# Altium integrated library Linear Technology Power Management Current Sources.IntLib: 79 symbols (part 4 of 7)
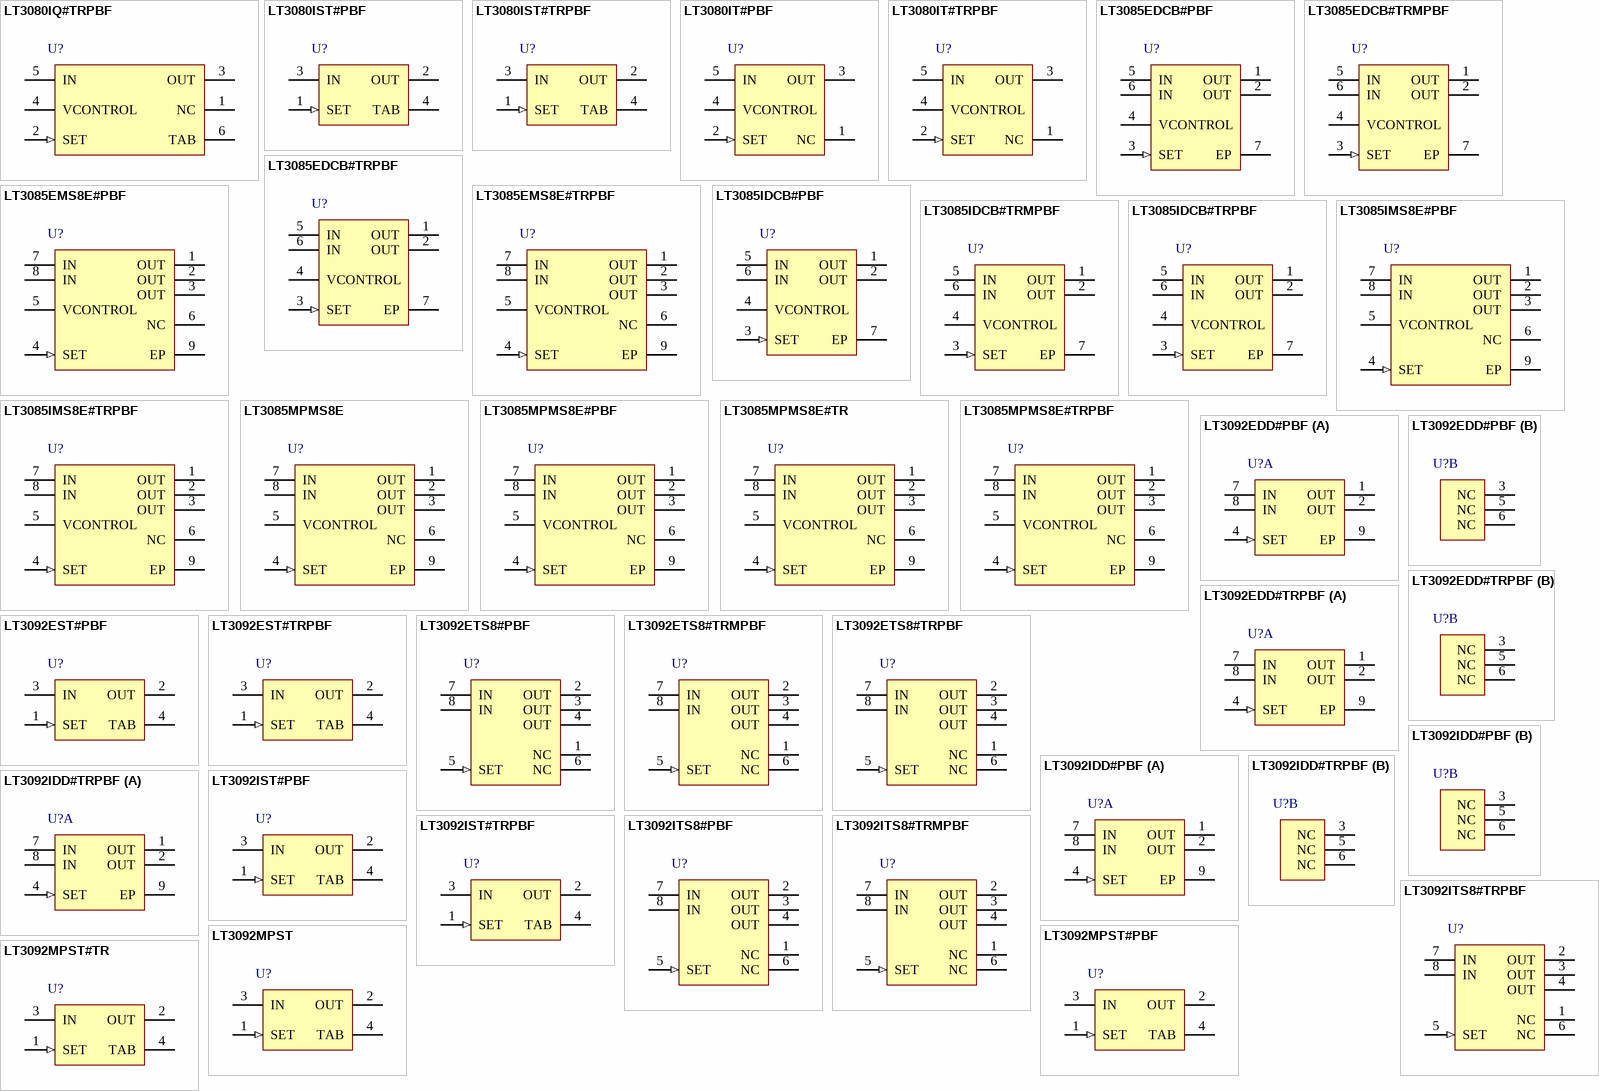
[diagram p5: symbols LT3080IQ#TRPBF to LT3092MPST#TR]

## LT3092ETS8#TRPBF
designator U?
200 mA Two-Terminal Programmable Current Source, 0.3 mA Isupply, 8-pin SOT23 (TS8-8), -40 to 125 degC, Pb-Free, Tape and Reel; Manufacturer: Linear Technology; PartNumber: LT3092ETS8#TRPBF; Extended Temp: E, I, MP; Initial Accuracy(%): 1; Isupply(mA): 0.3; Output Current Range: 0.5 mA to 200 mA; Vin Max(V): 40; Vin Min(V): 1.2; DatasheetVersion: Rev. B; PackageVersion: Rev. A, 08/2010; PackageReference: TS8-8; PackageDescription: 8-Pin Plastic TSOT-23, Body 2.9 x 1.63 mm, Pitch 0.65 mm; Supplier 1: Digi-Key; Supplier Part Number 1: LT3092ETS8#TRPBF-ND; Supplier 2: Newark; Supplier Part Number 2: 72R5815; Packing: Tape and Reel; RoHS: TRUE; Mounting Technology: Surface Mount; Code_JEDEC: MO-193; ComponentLink1Description: Manufacturer URL; ComponentLink1URL: http://www.linear.com/; ComponentLink2Description: Datasheet; ComponentLink2URL: http://cds.linear.com/docs/en/datasheet/3092fb.pdf; ComponentLink3Description: Package Specification; ComponentLink3URL: http://cds.linear.com/docs/en/packaging/SOT_8_05-08-1637.pdf
footprint LT-TS8-8-TSOT-23_V (SOT23, 8-Leads, Body 2.90x1.63mm, Pitch 0.65mm, Recommended)
pins: 1 NC "No Connection. These pins have no connection to internal circuitry and may be tied to IN, OUT, GND or floated.", 2 OUT (power) "This is the power output of the device. The minimum current source value to which the LT3092 can be set is 0.5mA or the device will not regulate.", 3 OUT (power) "This is the power output of the device. The minimum current source value to which the LT3092 can be set is 0.5mA or the device will not regulate.", 4 OUT (power) "This is the power output of the device. The minimum current source value to which the LT3092 can be set is 0.5mA or the device will not regulate.", 5 SET (in) "This pin is the error amplifier’s noninverting input and also sets the operating bias point of the circuit. A fixed 10uA current source flows out of this pin. Two resistors program IOUT as a function of the resistor rati(See Datasheet)", 6 NC "No Connection. These pins have no connection to internal circuitry and may be tied to IN, OUT, GND or floated.", 7 IN (power) "This pin supplies power to bias internal circuitry and supply output load current. For the device to operate properly and regulate, the voltage on this pin must be 1.2V to 1.4V above the OUT pin (depending on output load (See Datasheet)", 8 IN (power) "This pin supplies power to bias internal circuitry and supply output load current. For the device to operate properly and regulate, the voltage on this pin must be 1.2V to 1.4V above the OUT pin (depending on output load (See Datasheet)"

## LT3092IDD#PBF
designator U?
200 mA Two-Terminal Programmable Current Source, 0.3 mA Isupply, 8-pin SON (DD-8), -40 to 125 degC, Pb-Free; Manufacturer: Linear Technology; PartNumber: LT3092IDD#PBF; Extended Temp: E, I, MP; Initial Accuracy(%): 1; Isupply(mA): 0.3; Output Current Range: 0.5 mA to 200 mA; Vin Max(V): 40; Vin Min(V): 1.2; DatasheetVersion: Rev. B; PackageVersion: Jun-10; PackageReference: DD-8; PackageDescription: 8-Pin Plastic DFN, Body 3 x 3 mm, Pitch 0.5 mm; Supplier 1: Digi-Key; Supplier Part Number 1: LT3092IDD#PBF-ND; Supplier 2: Farnell; Supplier Part Number 2: 2295471; Supplier 3: Newark; Supplier Part Number 3: 72R5816; RoHS: TRUE; Mounting Technology: Surface Mount; Code_JEDEC: MO-229; ComponentLink1Description: Manufacturer URL; ComponentLink1URL: http://www.linear.com/; ComponentLink2Description: Datasheet; ComponentLink2URL: http://cds.linear.com/docs/en/datasheet/3092fb.pdf; ComponentLink3Description: Package Specification; ComponentLink3URL: http://cds.linear.com/docs/en/packaging/DFN_8_05-08-1698.pdf
footprint LT-DD-8_V (SON, 8-Leads, Body 3x3mm, Pitch 0.5mm, Thermal Pad 1.65x2.38 mm, IPC Low Density)
part A pins: 1 OUT (power) "This is the power output of the device. The minimum current source value to which the LT3092 can be set is 0.5mA or the device will not regulate.", 2 OUT (power) "This is the power output of the device. The minimum current source value to which the LT3092 can be set is 0.5mA or the device will not regulate.", 4 SET (in) "This pin is the error amplifier’s noninverting input and also sets the operating bias point of the circuit. A fixed 10uA current source flows out of this pin. Two resistors program IOUT as a function of the resistor rati(See Datasheet)", 7 IN (power) "This pin supplies power to bias internal circuitry and supply output load current. For the device to operate properly and regulate, the voltage on this pin must be 1.2V to 1.4V above the OUT pin (depending on output load (See Datasheet)", 8 IN (power) "This pin supplies power to bias internal circuitry and supply output load current. For the device to operate properly and regulate, the voltage on this pin must be 1.2V to 1.4V above the OUT pin (depending on output load (See Datasheet)", 9 EP (power) "Output. The Exposed Pad of the DFN package and the Tab of the SOT-223 package are tied internally to OUT. Tie them directly to the OUT pins (Pins 1, 2/Pin 2) at the PCB. The amount of copper area and planes connected to OUT (See Datasheet)"
part B pins: 3 NC "No Connection. These pins have no connection to internal circuitry and may be tied to IN, OUT, GND or floated.", 5 NC "No Connection. These pins have no connection to internal circuitry and may be tied to IN, OUT, GND or floated.", 6 NC "No Connection. These pins have no connection to internal circuitry and may be tied to IN, OUT, GND or floated."

## LT3092IDD#TRPBF
designator U?
200 mA Two-Terminal Programmable Current Source, 0.3 mA Isupply, 8-pin SON (DD-8), -40 to 125 degC, Pb-Free, Tape and Reel; Manufacturer: Linear Technology; PartNumber: LT3092IDD#TRPBF; Extended Temp: E, I, MP; Initial Accuracy(%): 1; Isupply(mA): 0.3; Output Current Range: 0.5 mA to 200 mA; Vin Max(V): 40; Vin Min(V): 1.2; DatasheetVersion: Rev. B; PackageVersion: Jun-10; PackageReference: DD-8; PackageDescription: 8-Pin Plastic DFN, Body 3 x 3 mm, Pitch 0.5 mm; Supplier 1: Digi-Key; Supplier Part Number 1: LT3092IDD#TRPBF-ND; Packing: Tape and Reel; RoHS: TRUE; Mounting Technology: Surface Mount; Code_JEDEC: MO-229; ComponentLink1Description: Manufacturer URL; ComponentLink1URL: http://www.linear.com/; ComponentLink2Description: Datasheet; ComponentLink2URL: http://cds.linear.com/docs/en/datasheet/3092fb.pdf; ComponentLink3Description: Package Specification; ComponentLink3URL: http://cds.linear.com/docs/en/packaging/DFN_8_05-08-1698.pdf
footprint LT-DD-8_V (SON, 8-Leads, Body 3x3mm, Pitch 0.5mm, Thermal Pad 1.65x2.38 mm, IPC Low Density)
part A pins: 1 OUT (power) "This is the power output of the device. The minimum current source value to which the LT3092 can be set is 0.5mA or the device will not regulate.", 2 OUT (power) "This is the power output of the device. The minimum current source value to which the LT3092 can be set is 0.5mA or the device will not regulate.", 4 SET (in) "This pin is the error amplifier’s noninverting input and also sets the operating bias point of the circuit. A fixed 10uA current source flows out of this pin. Two resistors program IOUT as a function of the resistor rati(See Datasheet)", 7 IN (power) "This pin supplies power to bias internal circuitry and supply output load current. For the device to operate properly and regulate, the voltage on this pin must be 1.2V to 1.4V above the OUT pin (depending on output load (See Datasheet)", 8 IN (power) "This pin supplies power to bias internal circuitry and supply output load current. For the device to operate properly and regulate, the voltage on this pin must be 1.2V to 1.4V above the OUT pin (depending on output load (See Datasheet)", 9 EP (power) "Output. The Exposed Pad of the DFN package and the Tab of the SOT-223 package are tied internally to OUT. Tie them directly to the OUT pins (Pins 1, 2/Pin 2) at the PCB. The amount of copper area and planes connected to OUT (See Datasheet)"
part B pins: 3 NC "No Connection. These pins have no connection to internal circuitry and may be tied to IN, OUT, GND or floated.", 5 NC "No Connection. These pins have no connection to internal circuitry and may be tied to IN, OUT, GND or floated.", 6 NC "No Connection. These pins have no connection to internal circuitry and may be tied to IN, OUT, GND or floated."

## LT3092IST#PBF
designator U?
200 mA Two-Terminal Programmable Current Source, 0.3 mA Isupply, 3-pin SOT223 (ST-3), -40 to 125 degC, Pb-Free; Manufacturer: Linear Technology; PartNumber: LT3092IST#PBF; Extended Temp: E, I, MP; Initial Accuracy(%): 1; Isupply(mA): 0.3; Output Current Range: 0.5 mA to 200 mA; Vin Max(V): 40; Vin Min(V): 1.2; DatasheetVersion: Rev. B; PackageVersion: Jun-10; PackageReference: ST-3; PackageDescription: 3-Pin Plastic SOT-223, Body 3.505 x 6.505 mm, Pitch 2.3 mm; Supplier 1: Digi-Key; Supplier Part Number 1: LT3092IST#PBF-ND; Supplier 2: Farnell; Supplier Part Number 2: 2295472; Supplier 3: Newark; Supplier Part Number 3: 72R5818; RoHS: TRUE; Mounting Technology: Surface Mount; ComponentLink1Description: Manufacturer URL; ComponentLink1URL: http://www.linear.com/; ComponentLink2Description: Datasheet; ComponentLink2URL: http://cds.linear.com/docs/en/datasheet/3092fb.pdf; ComponentLink3Description: Package Specification; ComponentLink3URL: http://cds.linear.com/docs/en/packaging/SOT_3_05-08-1630.pdf
footprint LT-ST-3-SOT-223_N (SOT223, 4-Leads, Body 6.505x3.505mm, Pitch 2.3mm, IPC Medium Density)
footprint LT-ST-3-SOT-223_L (SOT223, 4-Leads, Body 6.505x3.505mm, Pitch 2.3mm, IPC High Density)
footprint LT-ST-3-SOT-223_M (SOT223, 4-Leads, Body 6.505x3.505mm, Pitch 2.3mm, IPC Low Density)
pins: 1 SET (in) "This pin is the error amplifier’s noninverting input and also sets the operating bias point of the circuit. A fixed 10uA current source flows out of this pin. Two resistors program IOUT as a function of the resistor rati(See Datasheet)", 2 OUT (power) "This is the power output of the device. The minimum current source value to which the device can be set is 0.5mA or the device will not regulate.", 3 IN (power) "This pin supplies power to bias internal circuitry and supply output load current. For the device to operate properly and regulate, the voltage on this pin must be 1.2V to 1.4V above the OUT pin (depending on output load (See Datasheet)", 4 TAB (power)

## LT3092IST#TRPBF
designator U?
200 mA Two-Terminal Programmable Current Source, 0.3 mA Isupply, 3-pin SOT223 (ST-3), -40 to 125 degC, Pb-Free, Tape and Reel; Manufacturer: Linear Technology; PartNumber: LT3092IST#TRPBF; Extended Temp: E, I, MP; Initial Accuracy(%): 1; Isupply(mA): 0.3; Output Current Range: 0.5 mA to 200 mA; Vin Max(V): 40; Vin Min(V): 1.2; DatasheetVersion: Rev. B; PackageVersion: Jun-10; PackageReference: ST-3; PackageDescription: 3-Pin Plastic SOT-223, Body 3.505 x 6.505 mm, Pitch 2.3 mm; Supplier 1: Digi-Key; Supplier Part Number 1: LT3092IST#TRPBF-ND; Supplier 2: Newark; Supplier Part Number 2: 74R3074; Packing: Tape and Reel; RoHS: TRUE; Mounting Technology: Surface Mount; ComponentLink1Description: Manufacturer URL; ComponentLink1URL: http://www.linear.com/; ComponentLink2Description: Datasheet; ComponentLink2URL: http://cds.linear.com/docs/en/datasheet/3092fb.pdf; ComponentLink3Description: Package Specification; ComponentLink3URL: http://cds.linear.com/docs/en/packaging/SOT_3_05-08-1630.pdf
footprint LT-ST-3-SOT-223_N (SOT223, 4-Leads, Body 6.505x3.505mm, Pitch 2.3mm, IPC Medium Density)
footprint LT-ST-3-SOT-223_L (SOT223, 4-Leads, Body 6.505x3.505mm, Pitch 2.3mm, IPC High Density)
footprint LT-ST-3-SOT-223_M (SOT223, 4-Leads, Body 6.505x3.505mm, Pitch 2.3mm, IPC Low Density)
pins: 1 SET (in) "This pin is the error amplifier’s noninverting input and also sets the operating bias point of the circuit. A fixed 10uA current source flows out of this pin. Two resistors program IOUT as a function of the resistor rati(See Datasheet)", 2 OUT (power) "This is the power output of the device. The minimum current source value to which the device can be set is 0.5mA or the device will not regulate.", 3 IN (power) "This pin supplies power to bias internal circuitry and supply output load current. For the device to operate properly and regulate, the voltage on this pin must be 1.2V to 1.4V above the OUT pin (depending on output load (See Datasheet)", 4 TAB (power)

## LT3092ITS8#PBF
designator U?
200 mA Two-Terminal Programmable Current Source, 0.3 mA Isupply, 8-pin SOT23 (TS8-8), -40 to 125 degC, Pb-Free; Manufacturer: Linear Technology; PartNumber: LT3092ITS8#PBF; Extended Temp: E, I, MP; Initial Accuracy(%): 1; Isupply(mA): 0.3; Output Current Range: 0.5 mA to 200 mA; Vin Max(V): 40; Vin Min(V): 1.2; DatasheetVersion: Rev. B; PackageVersion: Rev. A, 08/2010; PackageReference: TS8-8; PackageDescription: 8-Pin Plastic TSOT-23, Body 2.9 x 1.63 mm, Pitch 0.65 mm; Supplier 1: Newark; Supplier Part Number 1: 78T3983; RoHS: TRUE; Mounting Technology: Surface Mount; Code_JEDEC: MO-193; ComponentLink1Description: Manufacturer URL; ComponentLink1URL: http://www.linear.com/; ComponentLink2Description: Datasheet; ComponentLink2URL: http://cds.linear.com/docs/en/datasheet/3092fb.pdf; ComponentLink3Description: Package Specification; ComponentLink3URL: http://cds.linear.com/docs/en/packaging/SOT_8_05-08-1637.pdf
footprint LT-TS8-8-TSOT-23_V (SOT23, 8-Leads, Body 2.90x1.63mm, Pitch 0.65mm, Recommended)
pins: 1 NC "No Connection. These pins have no connection to internal circuitry and may be tied to IN, OUT, GND or floated.", 2 OUT (power) "This is the power output of the device. The minimum current source value to which the LT3092 can be set is 0.5mA or the device will not regulate.", 3 OUT (power) "This is the power output of the device. The minimum current source value to which the LT3092 can be set is 0.5mA or the device will not regulate.", 4 OUT (power) "This is the power output of the device. The minimum current source value to which the LT3092 can be set is 0.5mA or the device will not regulate.", 5 SET (in) "This pin is the error amplifier’s noninverting input and also sets the operating bias point of the circuit. A fixed 10uA current source flows out of this pin. Two resistors program IOUT as a function of the resistor rati(See Datasheet)", 6 NC "No Connection. These pins have no connection to internal circuitry and may be tied to IN, OUT, GND or floated.", 7 IN (power) "This pin supplies power to bias internal circuitry and supply output load current. For the device to operate properly and regulate, the voltage on this pin must be 1.2V to 1.4V above the OUT pin (depending on output load (See Datasheet)", 8 IN (power) "This pin supplies power to bias internal circuitry and supply output load current. For the device to operate properly and regulate, the voltage on this pin must be 1.2V to 1.4V above the OUT pin (depending on output load (See Datasheet)"

## LT3092ITS8#TRMPBF
designator U?
200 mA Two-Terminal Programmable Current Source, 0.3 mA Isupply, 8-pin SOT23 (TS8-8), -40 to 125 degC, Pb-Free, Mini Tape and Reel; Manufacturer: Linear Technology; PartNumber: LT3092ITS8#TRMPBF; Extended Temp: E, I, MP; Initial Accuracy(%): 1; Isupply(mA): 0.3; Output Current Range: 0.5 mA to 200 mA; Vin Max(V): 40; Vin Min(V): 1.2; DatasheetVersion: Rev. B; PackageVersion: Rev. A, 08/2010; PackageReference: TS8-8; PackageDescription: 8-Pin Plastic TSOT-23, Body 2.9 x 1.63 mm, Pitch 0.65 mm; Supplier 1: Digi-Key; Supplier Part Number 1: LT3092ITS8#TRMPBF-ND; Packing: Mini Tape and Reel; RoHS: TRUE; Mounting Technology: Surface Mount; Code_JEDEC: MO-193; ComponentLink1Description: Manufacturer URL; ComponentLink1URL: http://www.linear.com/; ComponentLink2Description: Datasheet; ComponentLink2URL: http://cds.linear.com/docs/en/datasheet/3092fb.pdf; ComponentLink3Description: Package Specification; ComponentLink3URL: http://cds.linear.com/docs/en/packaging/SOT_8_05-08-1637.pdf
footprint LT-TS8-8-TSOT-23_V (SOT23, 8-Leads, Body 2.90x1.63mm, Pitch 0.65mm, Recommended)
pins: 1 NC "No Connection. These pins have no connection to internal circuitry and may be tied to IN, OUT, GND or floated.", 2 OUT (power) "This is the power output of the device. The minimum current source value to which the LT3092 can be set is 0.5mA or the device will not regulate.", 3 OUT (power) "This is the power output of the device. The minimum current source value to which the LT3092 can be set is 0.5mA or the device will not regulate.", 4 OUT (power) "This is the power output of the device. The minimum current source value to which the LT3092 can be set is 0.5mA or the device will not regulate.", 5 SET (in) "This pin is the error amplifier’s noninverting input and also sets the operating bias point of the circuit. A fixed 10uA current source flows out of this pin. Two resistors program IOUT as a function of the resistor rati(See Datasheet)", 6 NC "No Connection. These pins have no connection to internal circuitry and may be tied to IN, OUT, GND or floated.", 7 IN (power) "This pin supplies power to bias internal circuitry and supply output load current. For the device to operate properly and regulate, the voltage on this pin must be 1.2V to 1.4V above the OUT pin (depending on output load (See Datasheet)", 8 IN (power) "This pin supplies power to bias internal circuitry and supply output load current. For the device to operate properly and regulate, the voltage on this pin must be 1.2V to 1.4V above the OUT pin (depending on output load (See Datasheet)"

## LT3092ITS8#TRPBF
designator U?
200 mA Two-Terminal Programmable Current Source, 0.3 mA Isupply, 8-pin SOT23 (TS8-8), -40 to 125 degC, Pb-Free, Tape and Reel; Manufacturer: Linear Technology; PartNumber: LT3092ITS8#TRPBF; Extended Temp: E, I, MP; Initial Accuracy(%): 1; Isupply(mA): 0.3; Output Current Range: 0.5 mA to 200 mA; Vin Max(V): 40; Vin Min(V): 1.2; DatasheetVersion: Rev. B; PackageVersion: Rev. A, 08/2010; PackageReference: TS8-8; PackageDescription: 8-Pin Plastic TSOT-23, Body 2.9 x 1.63 mm, Pitch 0.65 mm; Supplier 1: Digi-Key; Supplier Part Number 1: LT3092ITS8#TRPBF-ND; Packing: Tape and Reel; RoHS: TRUE; Mounting Technology: Surface Mount; Code_JEDEC: MO-193; ComponentLink1Description: Manufacturer URL; ComponentLink1URL: http://www.linear.com/; ComponentLink2Description: Datasheet; ComponentLink2URL: http://cds.linear.com/docs/en/datasheet/3092fb.pdf; ComponentLink3Description: Package Specification; ComponentLink3URL: http://cds.linear.com/docs/en/packaging/SOT_8_05-08-1637.pdf
footprint LT-TS8-8-TSOT-23_V (SOT23, 8-Leads, Body 2.90x1.63mm, Pitch 0.65mm, Recommended)
pins: 1 NC "No Connection. These pins have no connection to internal circuitry and may be tied to IN, OUT, GND or floated.", 2 OUT (power) "This is the power output of the device. The minimum current source value to which the LT3092 can be set is 0.5mA or the device will not regulate.", 3 OUT (power) "This is the power output of the device. The minimum current source value to which the LT3092 can be set is 0.5mA or the device will not regulate.", 4 OUT (power) "This is the power output of the device. The minimum current source value to which the LT3092 can be set is 0.5mA or the device will not regulate.", 5 SET (in) "This pin is the error amplifier’s noninverting input and also sets the operating bias point of the circuit. A fixed 10uA current source flows out of this pin. Two resistors program IOUT as a function of the resistor rati(See Datasheet)", 6 NC "No Connection. These pins have no connection to internal circuitry and may be tied to IN, OUT, GND or floated.", 7 IN (power) "This pin supplies power to bias internal circuitry and supply output load current. For the device to operate properly and regulate, the voltage on this pin must be 1.2V to 1.4V above the OUT pin (depending on output load (See Datasheet)", 8 IN (power) "This pin supplies power to bias internal circuitry and supply output load current. For the device to operate properly and regulate, the voltage on this pin must be 1.2V to 1.4V above the OUT pin (depending on output load (See Datasheet)"

## LT3092MPST
designator U?
200 mA Two-Terminal Programmable Current Source, 0.3 mA Isupply, 3-pin SOT223 (ST-3), -55 to 125 degC; Manufacturer: Linear Technology; PartNumber: LT3092MPST; Extended Temp: E, I, MP; Initial Accuracy(%): 1; Isupply(mA): 0.3; Output Current Range: 0.5 mA to 200 mA; Vin Max(V): 40; Vin Min(V): 1.2; DatasheetVersion: Rev. B; PackageVersion: Jun-10; PackageReference: ST-3; PackageDescription: 3-Pin Plastic SOT-223, Body 3.505 x 6.505 mm, Pitch 2.3 mm; RoHS: FALSE; Mounting Technology: Surface Mount; ComponentLink1Description: Manufacturer URL; ComponentLink1URL: http://www.linear.com/; ComponentLink2Description: Datasheet; ComponentLink2URL: http://cds.linear.com/docs/en/datasheet/3092fb.pdf; ComponentLink3Description: Package Specification; ComponentLink3URL: http://cds.linear.com/docs/en/packaging/SOT_3_05-08-1630.pdf
footprint LT-ST-3-SOT-223_N (SOT223, 4-Leads, Body 6.505x3.505mm, Pitch 2.3mm, IPC Medium Density)
footprint LT-ST-3-SOT-223_L (SOT223, 4-Leads, Body 6.505x3.505mm, Pitch 2.3mm, IPC High Density)
footprint LT-ST-3-SOT-223_M (SOT223, 4-Leads, Body 6.505x3.505mm, Pitch 2.3mm, IPC Low Density)
pins: 1 SET (in) "This pin is the error amplifier’s noninverting input and also sets the operating bias point of the circuit. A fixed 10uA current source flows out of this pin. Two resistors program IOUT as a function of the resistor rati(See Datasheet)", 2 OUT (power) "This is the power output of the device. The minimum current source value to which the device can be set is 0.5mA or the device will not regulate.", 3 IN (power) "This pin supplies power to bias internal circuitry and supply output load current. For the device to operate properly and regulate, the voltage on this pin must be 1.2V to 1.4V above the OUT pin (depending on output load (See Datasheet)", 4 TAB (power)

## LT3092MPST#PBF
designator U?
200 mA Two-Terminal Programmable Current Source, 0.3 mA Isupply, 3-pin SOT223 (ST-3), -55 to 125 degC, Pb-Free; Manufacturer: Linear Technology; PartNumber: LT3092MPST#PBF; Extended Temp: E, I, MP; Initial Accuracy(%): 1; Isupply(mA): 0.3; Output Current Range: 0.5 mA to 200 mA; Vin Max(V): 40; Vin Min(V): 1.2; DatasheetVersion: Rev. B; PackageVersion: Jun-10; PackageReference: ST-3; PackageDescription: 3-Pin Plastic SOT-223, Body 3.505 x 6.505 mm, Pitch 2.3 mm; Supplier 1: Digi-Key; Supplier Part Number 1: LT3092MPST#PBF-ND; Supplier 2: Newark; Supplier Part Number 2: 59T5815; RoHS: TRUE; Mounting Technology: Surface Mount; ComponentLink1Description: Manufacturer URL; ComponentLink1URL: http://www.linear.com/; ComponentLink2Description: Datasheet; ComponentLink2URL: http://cds.linear.com/docs/en/datasheet/3092fb.pdf; ComponentLink3Description: Package Specification; ComponentLink3URL: http://cds.linear.com/docs/en/packaging/SOT_3_05-08-1630.pdf
footprint LT-ST-3-SOT-223_N (SOT223, 4-Leads, Body 6.505x3.505mm, Pitch 2.3mm, IPC Medium Density)
footprint LT-ST-3-SOT-223_L (SOT223, 4-Leads, Body 6.505x3.505mm, Pitch 2.3mm, IPC High Density)
footprint LT-ST-3-SOT-223_M (SOT223, 4-Leads, Body 6.505x3.505mm, Pitch 2.3mm, IPC Low Density)
pins: 1 SET (in) "This pin is the error amplifier’s noninverting input and also sets the operating bias point of the circuit. A fixed 10uA current source flows out of this pin. Two resistors program IOUT as a function of the resistor rati(See Datasheet)", 2 OUT (power) "This is the power output of the device. The minimum current source value to which the device can be set is 0.5mA or the device will not regulate.", 3 IN (power) "This pin supplies power to bias internal circuitry and supply output load current. For the device to operate properly and regulate, the voltage on this pin must be 1.2V to 1.4V above the OUT pin (depending on output load (See Datasheet)", 4 TAB (power)

## LT3092MPST#TR
designator U?
200 mA Two-Terminal Programmable Current Source, 0.3 mA Isupply, 3-pin SOT223 (ST-3), -55 to 125 degC, Tape and Reel; Manufacturer: Linear Technology; PartNumber: LT3092MPST#TR; Extended Temp: E, I, MP; Initial Accuracy(%): 1; Isupply(mA): 0.3; Output Current Range: 0.5 mA to 200 mA; Vin Max(V): 40; Vin Min(V): 1.2; DatasheetVersion: Rev. B; PackageVersion: Jun-10; PackageReference: ST-3; PackageDescription: 3-Pin Plastic SOT-223, Body 3.505 x 6.505 mm, Pitch 2.3 mm; Packing: Tape and Reel; RoHS: FALSE; Mounting Technology: Surface Mount; ComponentLink1Description: Manufacturer URL; ComponentLink1URL: http://www.linear.com/; ComponentLink2Description: Datasheet; ComponentLink2URL: http://cds.linear.com/docs/en/datasheet/3092fb.pdf; ComponentLink3Description: Package Specification; ComponentLink3URL: http://cds.linear.com/docs/en/packaging/SOT_3_05-08-1630.pdf
footprint LT-ST-3-SOT-223_N (SOT223, 4-Leads, Body 6.505x3.505mm, Pitch 2.3mm, IPC Medium Density)
footprint LT-ST-3-SOT-223_L (SOT223, 4-Leads, Body 6.505x3.505mm, Pitch 2.3mm, IPC High Density)
footprint LT-ST-3-SOT-223_M (SOT223, 4-Leads, Body 6.505x3.505mm, Pitch 2.3mm, IPC Low Density)
pins: 1 SET (in) "This pin is the error amplifier’s noninverting input and also sets the operating bias point of the circuit. A fixed 10uA current source flows out of this pin. Two resistors program IOUT as a function of the resistor rati(See Datasheet)", 2 OUT (power) "This is the power output of the device. The minimum current source value to which the device can be set is 0.5mA or the device will not regulate.", 3 IN (power) "This pin supplies power to bias internal circuitry and supply output load current. For the device to operate properly and regulate, the voltage on this pin must be 1.2V to 1.4V above the OUT pin (depending on output load (See Datasheet)", 4 TAB (power)

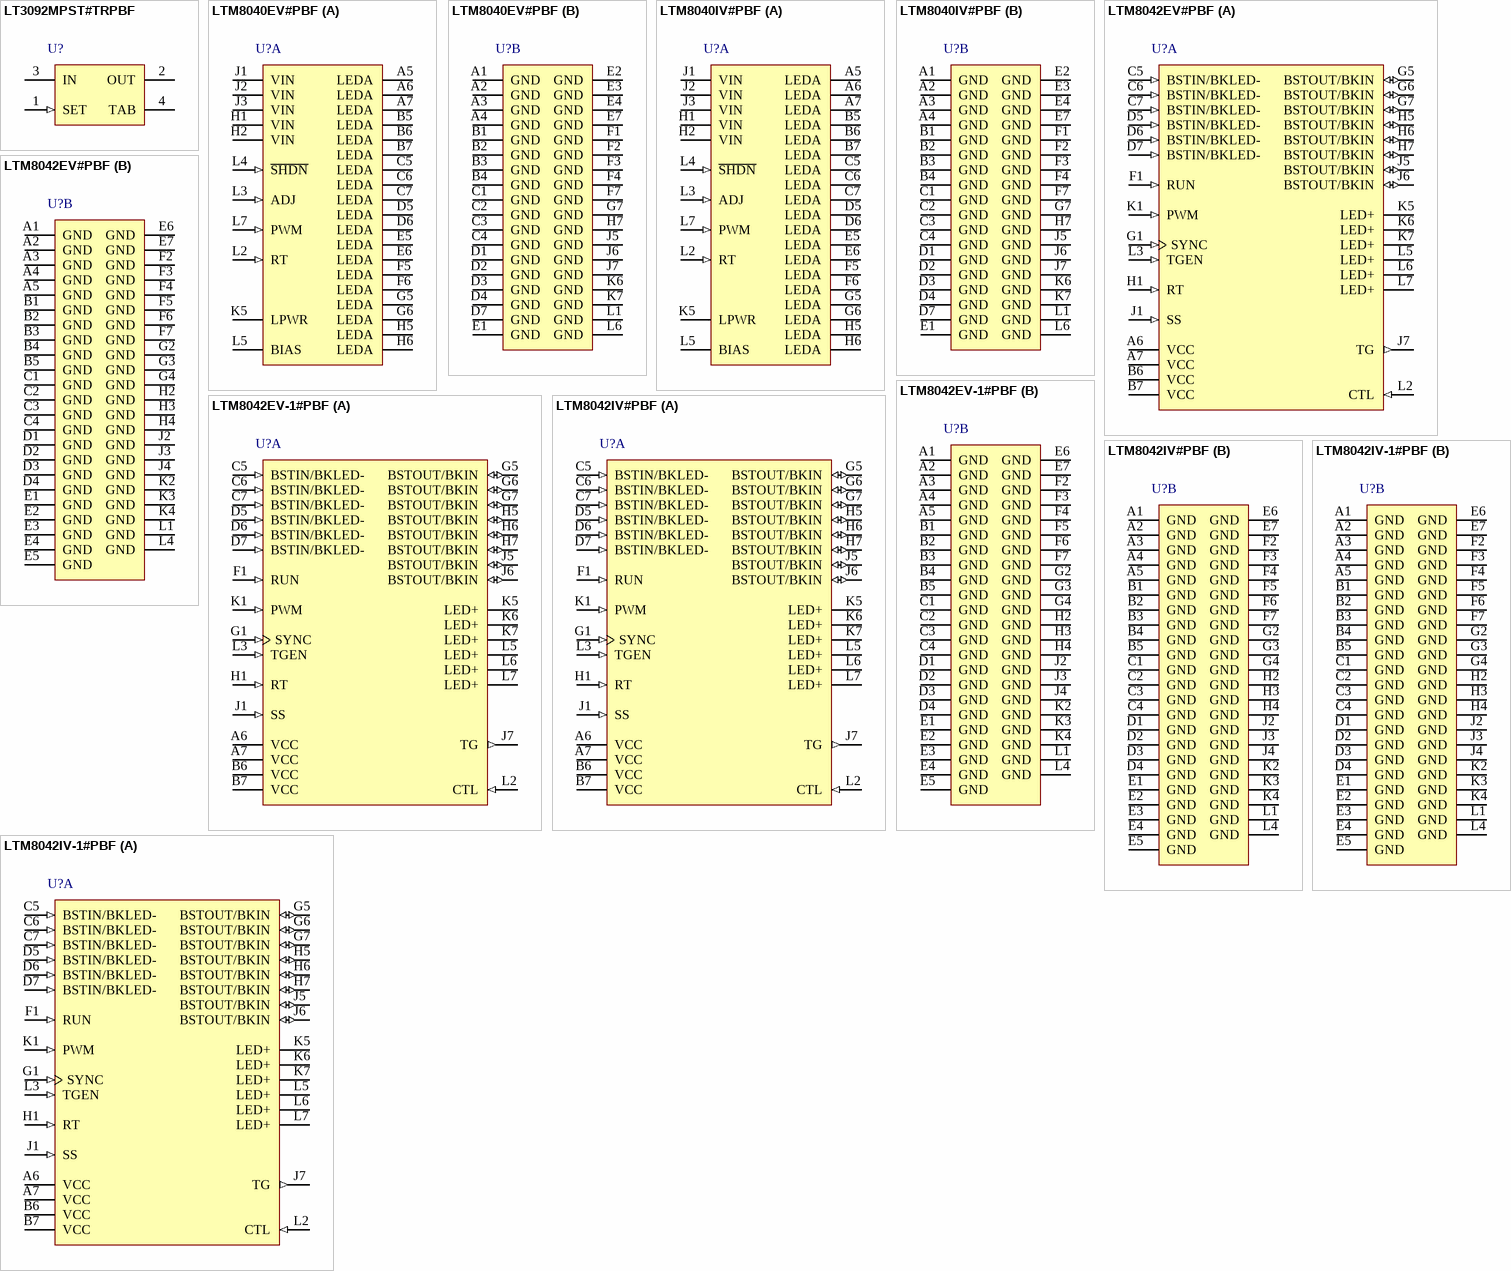
[diagram p2: symbols LT3092MPST#TRPBF to LTM8042IV-1#PBF]

## LT3092MPST#TRPBF
designator U?
200 mA Two-Terminal Programmable Current Source, 0.3 mA Isupply, 3-pin SOT223 (ST-3), -55 to 125 degC, Pb-Free, Tape and Reel; Manufacturer: Linear Technology; PartNumber: LT3092MPST#TRPBF; Extended Temp: E, I, MP; Initial Accuracy(%): 1; Isupply(mA): 0.3; Output Current Range: 0.5 mA to 200 mA; Vin Max(V): 40; Vin Min(V): 1.2; DatasheetVersion: Rev. B; PackageVersion: Jun-10; PackageReference: ST-3; PackageDescription: 3-Pin Plastic SOT-223, Body 3.505 x 6.505 mm, Pitch 2.3 mm; Supplier 1: Digi-Key; Supplier Part Number 1: LT3092MPST#TRPBF-ND; Packing: Tape and Reel; RoHS: TRUE; Mounting Technology: Surface Mount; ComponentLink1Description: Manufacturer URL; ComponentLink1URL: http://www.linear.com/; ComponentLink2Description: Datasheet; ComponentLink2URL: http://cds.linear.com/docs/en/datasheet/3092fb.pdf; ComponentLink3Description: Package Specification; ComponentLink3URL: http://cds.linear.com/docs/en/packaging/SOT_3_05-08-1630.pdf
footprint LT-ST-3-SOT-223_N (SOT223, 4-Leads, Body 6.505x3.505mm, Pitch 2.3mm, IPC Medium Density)
footprint LT-ST-3-SOT-223_L (SOT223, 4-Leads, Body 6.505x3.505mm, Pitch 2.3mm, IPC High Density)
footprint LT-ST-3-SOT-223_M (SOT223, 4-Leads, Body 6.505x3.505mm, Pitch 2.3mm, IPC Low Density)
pins: 1 SET (in) "This pin is the error amplifier’s noninverting input and also sets the operating bias point of the circuit. A fixed 10uA current source flows out of this pin. Two resistors program IOUT as a function of the resistor rati(See Datasheet)", 2 OUT (power) "This is the power output of the device. The minimum current source value to which the device can be set is 0.5mA or the device will not regulate.", 3 IN (power) "This pin supplies power to bias internal circuitry and supply output load current. For the device to operate properly and regulate, the voltage on this pin must be 1.2V to 1.4V above the OUT pin (depending on output load (See Datasheet)", 4 TAB (power)

## LTM8040EV#PBF
designator U?
36 V, 1 A uModule LED Driver, 2.6 mA Isupply, 66-pin LGA, 0 to 125 degC, Pb-Free, Tray; Manufacturer: Linear Technology; PartNumber: LTM8040EV#PBF; Extended Temp: E, I; Isupply(mA): 2.6; Output Current Range: 35 mA to 1000 mA; Vin Max(V): 36; Vin Min(V): 4; DatasheetVersion: Rev. A; PackageVersion: Rev. B, 02/2013; PackageReference: LGA-66; PackageDescription: 66-Pin LGA, Body 15 x 9 mm, Pitch 1.27 mm; Supplier 1: Digi-Key; Supplier Part Number 1: LTM8040EV#PBF-ND; Supplier 2: Farnell; Supplier Part Number 2: 1697064; Supplier 3: Newark; Supplier Part Number 3: 71P2245; Packing: Tray; RoHS: TRUE; Mounting Technology: Surface Mount; Code_JEDEC: MO-222; ComponentLink1Description: Manufacturer URL; ComponentLink1URL: http://www.linear.com/; ComponentLink2Description: Datasheet; ComponentLink2URL: http://cds.linear.com/docs/en/datasheet/8040fa.pdf; ComponentLink3Description: Package Specification; ComponentLink3URL: http://cds.linear.com/docs/en/packaging/05081810_B_lga66.pdf
footprint LT-LGA-66-05-08-1810_V (LGA, 66-Leads, Body 15x9mm, Pitch 1.27mm)
part A pins: A5 LEDA (power) "This pin is the regulated current source of the LTM8040. Connect the anode of the LED string to this pin. This voltage must be at least 2.5V for accurate current regulation.", A6 LEDA (power) "This pin is the regulated current source of the LTM8040. Connect the anode of the LED string to this pin. This voltage must be at least 2.5V for accurate current regulation.", A7 LEDA (power) "This pin is the regulated current source of the LTM8040. Connect the anode of the LED string to this pin. This voltage must be at least 2.5V for accurate current regulation.", B5 LEDA (power) "This pin is the regulated current source of the LTM8040. Connect the anode of the LED string to this pin. This voltage must be at least 2.5V for accurate current regulation.", B6 LEDA (power) "This pin is the regulated current source of the LTM8040. Connect the anode of the LED string to this pin. This voltage must be at least 2.5V for accurate current regulation.", B7 LEDA (power) "This pin is the regulated current source of the LTM8040. Connect the anode of the LED string to this pin. This voltage must be at least 2.5V for accurate current regulation.", C5 LEDA (power) "This pin is the regulated current source of the LTM8040. Connect the anode of the LED string to this pin. This voltage must be at least 2.5V for accurate current regulation.", C6 LEDA (power) "This pin is the regulated current source of the LTM8040. Connect the anode of the LED string to this pin. This voltage must be at least 2.5V for accurate current regulation.", C7 LEDA (power) "This pin is the regulated current source of the LTM8040. Connect the anode of the LED string to this pin. This voltage must be at least 2.5V for accurate current regulation.", D5 LEDA (power) "This pin is the regulated current source of the LTM8040. Connect the anode of the LED string to this pin. This voltage must be at least 2.5V for accurate current regulation.", D6 LEDA (power) "This pin is the regulated current source of the LTM8040. Connect the anode of the LED string to this pin. This voltage must be at least 2.5V for accurate current regulation.", E5 LEDA (power) "This pin is the regulated current source of the LTM8040. Connect the anode of the LED string to this pin. This voltage must be at least 2.5V for accurate current regulation.", E6 LEDA (power) "This pin is the regulated current source of the LTM8040. Connect the anode of the LED string to this pin. This voltage must be at least 2.5V for accurate current regulation.", F5 LEDA (power) "This pin is the regulated current source of the LTM8040. Connect the anode of the LED string to this pin. This voltage must be at least 2.5V for accurate current regulation.", F6 LEDA (power) "This pin is the regulated current source of the LTM8040. Connect the anode of the LED string to this pin. This voltage must be at least 2.5V for accurate current regulation.", G5 LEDA (power) "This pin is the regulated current source of the LTM8040. Connect the anode of the LED string to this pin. This voltage must be at least 2.5V for accurate current regulation.", G6 LEDA (power) "This pin is the regulated current source of the LTM8040. Connect the anode of the LED string to this pin. This voltage must be at least 2.5V for accurate current regulation.", H1 VIN (power) "The VIN pin supplies current to the LTM8040’s internal power converter and other circuitry. It must be locally bypassed with a high quality (low ESR) capacitor.", H2 VIN (power) "The VIN pin supplies current to the LTM8040’s internal power converter and other circuitry. It must be locally bypassed with a high quality (low ESR) capacitor.", H5 LEDA (power) "This pin is the regulated current source of the LTM8040. Connect the anode of the LED string to this pin. This voltage must be at least 2.5V for accurate current regulation.", H6 LEDA (power) "This pin is the regulated current source of the LTM8040. Connect the anode of the LED string to this pin. This voltage must be at least 2.5V for accurate current regulation.", J1 VIN (power) "The VIN pin supplies current to the LTM8040’s internal power converter and other circuitry. It must be locally bypassed with a high quality (low ESR) capacitor.", J2 VIN (power) "The VIN pin supplies current to the LTM8040’s internal power converter and other circuitry. It must be locally bypassed with a high quality (low ESR) capacitor.", J3 VIN (power) "The VIN pin supplies current to the LTM8040’s internal power converter and other circuitry. It must be locally bypassed with a high quality (low ESR) capacitor.", K5 LPWR (power) "This is the output of the buck regulator that sources the LED current. If the LEDA voltage is above 2.6V, connect this pin to BIAS. It is pinned out primarily for the convenience of the user. If it is not used, leave this (See Datasheet)", L2 RT (in) "The RT pin is used to set the internal oscillator frequency. An 80.6k resistor has already been installed inside the LTM8040 to default switching frequency to 500kHz. If no modification of the switching frequency is (See Datasheet)", L3 ADJ (in) "Use the ADJ pin to scale the LEDA output current below 1A by either applying a voltage source or by connecting a resistor to GND. This pin is internally pulled up to a 1.25V reference through a 5.11k resistor, so ensure that (See Datasheet)", L4 ~{SHDN} (in) "The S\H\D\N\ pin is used to shut down the switching regulator and the internal bias circuits. The 2.65V switching threshold can function as an accurate undervoltage lockout. Pull below 0.3V to shut down the LTM8040. Pull (See Datasheet)", L5 BIAS (power) "The BIAS pin connects through an internal Schottky diode to provide power to internal housekeeping circuits. Connect to a voltage source (usually LPWR or VIN) greater than 2.6V. Note that this pin is adjacent to the LPWR pin (See Datasheet)", L7 PWM (in) "Input Pin for PWM Dimming Control. A PWM signal above 1.2V (ON threshold) turns on the output current source, while a PWM signal below 0.4V shuts it down. If the application does not require PWM dimming, then the PWM pin can (See Datasheet)"
part B pins: A1 GND (power) "Tie all GND pins directly to a local ground plane. These pins serve as both signal and power return to the LTM8040 uModule, as well as providing the primary thermal path for heat dissipation within the unit. See the (See Datasheet)", A2 GND (power) "Tie all GND pins directly to a local ground plane. These pins serve as both signal and power return to the LTM8040 uModule, as well as providing the primary thermal path for heat dissipation within the unit. See the (See Datasheet)", A3 GND (power) "Tie all GND pins directly to a local ground plane. These pins serve as both signal and power return to the LTM8040 uModule, as well as providing the primary thermal path for heat dissipation within the unit. See the (See Datasheet)", A4 GND (power) "Tie all GND pins directly to a local ground plane. These pins serve as both signal and power return to the LTM8040 uModule, as well as providing the primary thermal path for heat dissipation within the unit. See the (See Datasheet)", B1 GND (power) "Tie all GND pins directly to a local ground plane. These pins serve as both signal and power return to the LTM8040 uModule, as well as providing the primary thermal path for heat dissipation within the unit. See the (See Datasheet)", B2 GND (power) "Tie all GND pins directly to a local ground plane. These pins serve as both signal and power return to the LTM8040 uModule, as well as providing the primary thermal path for heat dissipation within the unit. See the (See Datasheet)", B3 GND (power) "Tie all GND pins directly to a local ground plane. These pins serve as both signal and power return to the LTM8040 uModule, as well as providing the primary thermal path for heat dissipation within the unit. See the (See Datasheet)", B4 GND (power) "Tie all GND pins directly to a local ground plane. These pins serve as both signal and power return to the LTM8040 uModule, as well as providing the primary thermal path for heat dissipation within the unit. See the (See Datasheet)", C1 GND (power) "Tie all GND pins directly to a local ground plane. These pins serve as both signal and power return to the LTM8040 uModule, as well as providing the primary thermal path for heat dissipation within the unit. See the (See Datasheet)", C2 GND (power) "Tie all GND pins directly to a local ground plane. These pins serve as both signal and power return to the LTM8040 uModule, as well as providing the primary thermal path for heat dissipation within the unit. See the (See Datasheet)", C3 GND (power) "Tie all GND pins directly to a local ground plane. These pins serve as both signal and power return to the LTM8040 uModule, as well as providing the primary thermal path for heat dissipation within the unit. See the (See Datasheet)", C4 GND (power) "Tie all GND pins directly to a local ground plane. These pins serve as both signal and power return to the LTM8040 uModule, as well as providing the primary thermal path for heat dissipation within the unit. See the (See Datasheet)", D1 GND (power) "Tie all GND pins directly to a local ground plane. These pins serve as both signal and power return to the LTM8040 uModule, as well as providing the primary thermal path for heat dissipation within the unit. See the (See Datasheet)", D2 GND (power) "Tie all GND pins directly to a local ground plane. These pins serve as both signal and power return to the LTM8040 uModule, as well as providing the primary thermal path for heat dissipation within the unit. See the (See Datasheet)", D3 GND (power) "Tie all GND pins directly to a local ground plane. These pins serve as both signal and power return to the LTM8040 uModule, as well as providing the primary thermal path for heat dissipation within the unit. See the (See Datasheet)", D4 GND (power) "Tie all GND pins directly to a local ground plane. These pins serve as both signal and power return to the LTM8040 uModule, as well as providing the primary thermal path for heat dissipation within the unit. See the (See Datasheet)", D7 GND (power) "Tie all GND pins directly to a local ground plane. These pins serve as both signal and power return to the LTM8040 uModule, as well as providing the primary thermal path for heat dissipation within the unit. See the (See Datasheet)", E1 GND (power) "Tie all GND pins directly to a local ground plane. These pins serve as both signal and power return to the LTM8040 uModule, as well as providing the primary thermal path for heat dissipation within the unit. See the (See Datasheet)", E2 GND (power) "Tie all GND pins directly to a local ground plane. These pins serve as both signal and power return to the LTM8040 uModule, as well as providing the primary thermal path for heat dissipation within the unit. See the (See Datasheet)", E3 GND (power) "Tie all GND pins directly to a local ground plane. These pins serve as both signal and power return to the LTM8040 uModule, as well as providing the primary thermal path for heat dissipation within the unit. See the (See Datasheet)", E4 GND (power) "Tie all GND pins directly to a local ground plane. These pins serve as both signal and power return to the LTM8040 uModule, as well as providing the primary thermal path for heat dissipation within the unit. See the (See Datasheet)", E7 GND (power) "Tie all GND pins directly to a local ground plane. These pins serve as both signal and power return to the LTM8040 uModule, as well as providing the primary thermal path for heat dissipation within the unit. See the (See Datasheet)", F1 GND (power) "Tie all GND pins directly to a local ground plane. These pins serve as both signal and power return to the LTM8040 uModule, as well as providing the primary thermal path for heat dissipation within the unit. See the (See Datasheet)", F2 GND (power) "Tie all GND pins directly to a local ground plane. These pins serve as both signal and power return to the LTM8040 uModule, as well as providing the primary thermal path for heat dissipation within the unit. See the (See Datasheet)", F3 GND (power) "Tie all GND pins directly to a local ground plane. These pins serve as both signal and power return to the LTM8040 uModule, as well as providing the primary thermal path for heat dissipation within the unit. See the (See Datasheet)", F4 GND (power) "Tie all GND pins directly to a local ground plane. These pins serve as both signal and power return to the LTM8040 uModule, as well as providing the primary thermal path for heat dissipation within the unit. See the (See Datasheet)", F7 GND (power) "Tie all GND pins directly to a local ground plane. These pins serve as both signal and power return to the LTM8040 uModule, as well as providing the primary thermal path for heat dissipation within the unit. See the (See Datasheet)", G7 GND (power) "Tie all GND pins directly to a local ground plane. These pins serve as both signal and power return to the LTM8040 uModule, as well as providing the primary thermal path for heat dissipation within the unit. See the (See Datasheet)", H7 GND (power) "Tie all GND pins directly to a local ground plane. These pins serve as both signal and power return to the LTM8040 uModule, as well as providing the primary thermal path for heat dissipation within the unit. See the (See Datasheet)", J5 GND (power) "Tie all GND pins directly to a local ground plane. These pins serve as both signal and power return to the LTM8040 uModule, as well as providing the primary thermal path for heat dissipation within the unit. See the (See Datasheet)", J6 GND (power) "Tie all GND pins directly to a local ground plane. These pins serve as both signal and power return to the LTM8040 uModule, as well as providing the primary thermal path for heat dissipation within the unit. See the (See Datasheet)", J7 GND (power) "Tie all GND pins directly to a local ground plane. These pins serve as both signal and power return to the LTM8040 uModule, as well as providing the primary thermal path for heat dissipation within the unit. See the (See Datasheet)", K6 GND (power) "Tie all GND pins directly to a local ground plane. These pins serve as both signal and power return to the LTM8040 uModule, as well as providing the primary thermal path for heat dissipation within the unit. See the (See Datasheet)", K7 GND (power) "Tie all GND pins directly to a local ground plane. These pins serve as both signal and power return to the LTM8040 uModule, as well as providing the primary thermal path for heat dissipation within the unit. See the (See Datasheet)", L1 GND (power) "Tie all GND pins directly to a local ground plane. These pins serve as both signal and power return to the LTM8040 uModule, as well as providing the primary thermal path for heat dissipation within the unit. See the (See Datasheet)", L6 GND (power) "Tie all GND pins directly to a local ground plane. These pins serve as both signal and power return to the LTM8040 uModule, as well as providing the primary thermal path for heat dissipation within the unit. See the (See Datasheet)"